# Altium integrated library TI Power Management Battery Management.IntLib: 949 symbols (part 33 of 62)
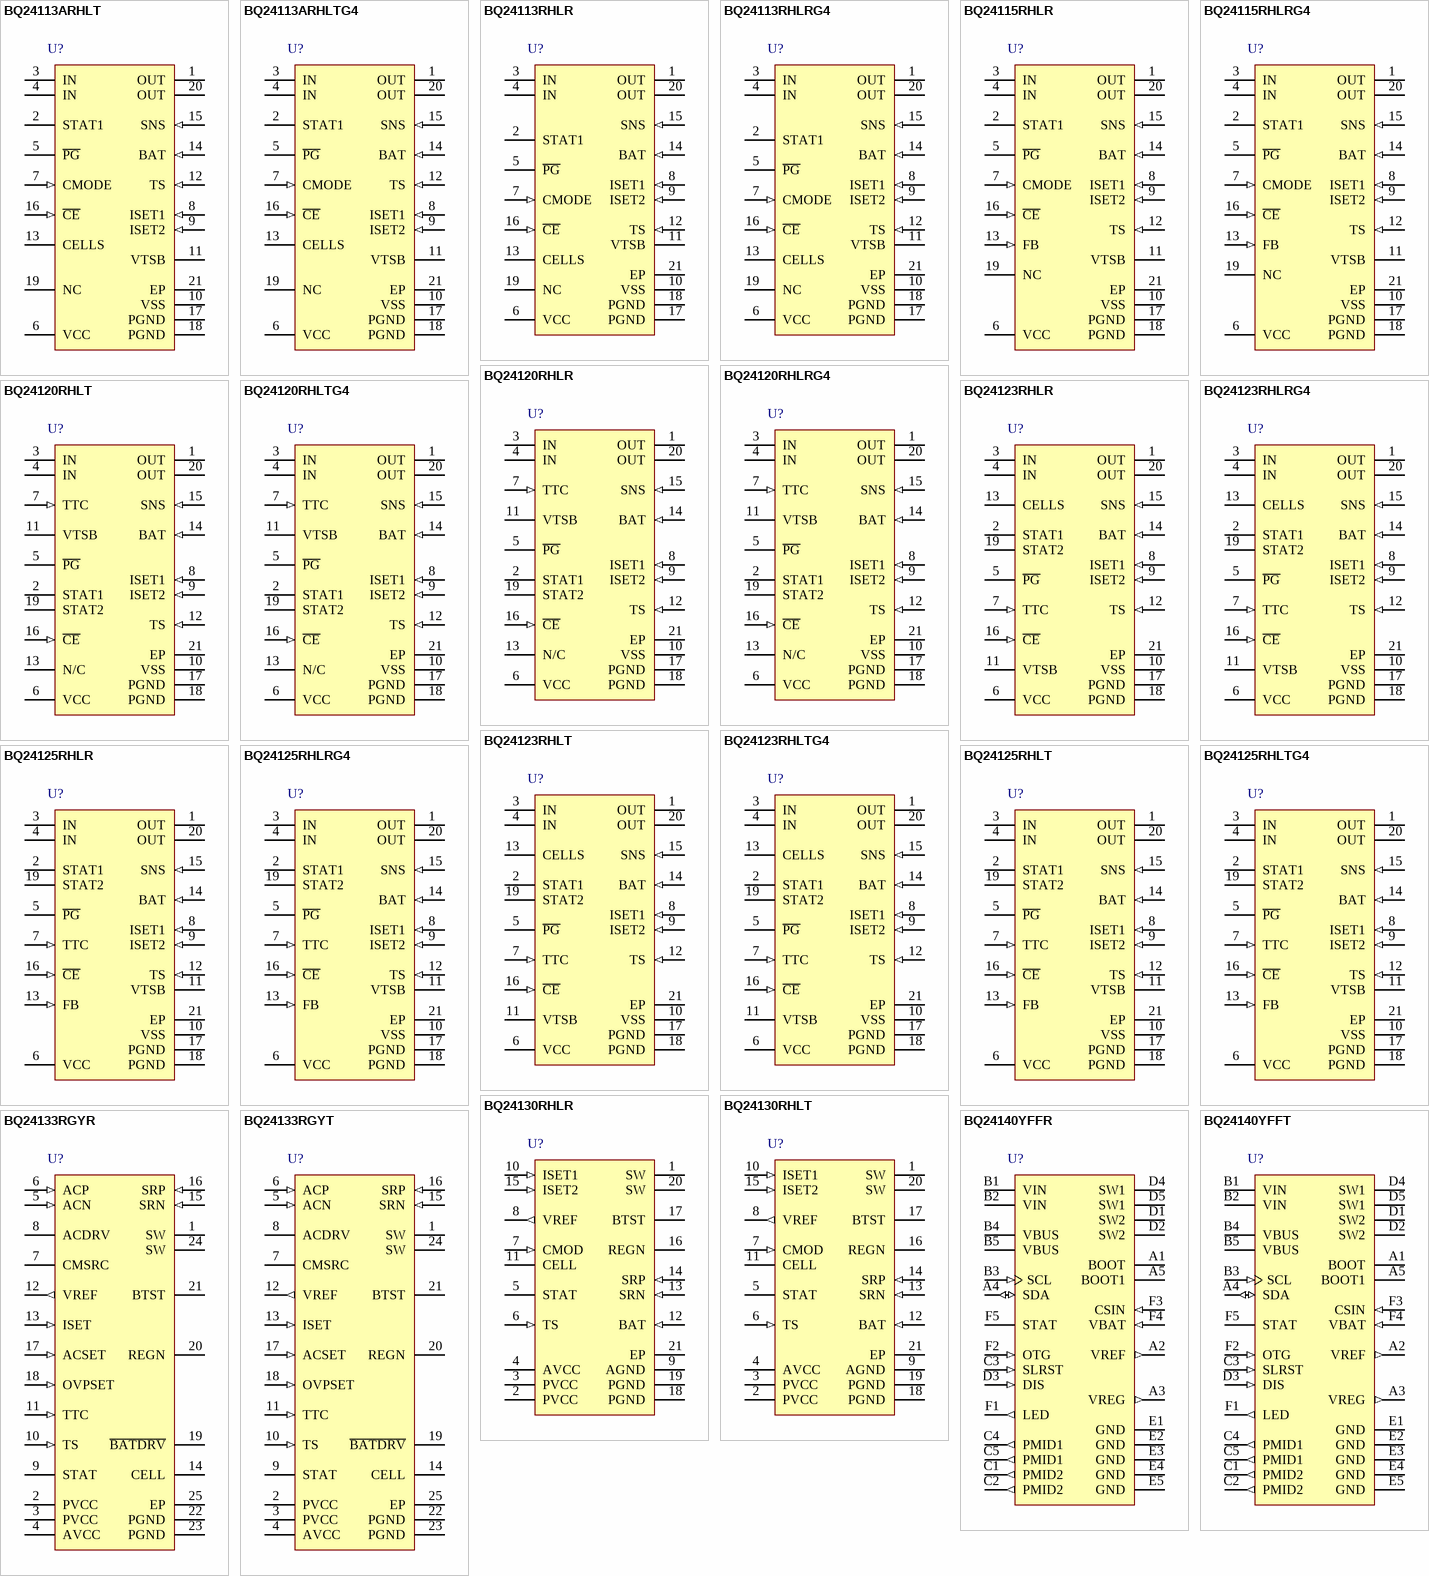
[diagram p66: symbols BQ24113ARHLT to BQ24140YFFT]

## BQ24125RHLRG4
designator U?
Single Chip Switchmode Li-Ion and Li-Polymer Charge Management IC with Enhanced EMI Performance, 4.3 V, -40 to 125 degC, 20-pin QFN (RHL), Green (RoHS & no Sb/Br); PartNumber: BQ24125RHLRG4; Manufacturer: Texas Instruments; Lead Acid: N; Li-Ion: Y; SubFamily: Battery Charge Management; Vin(Min)(V): 4.3; DatasheetVersion: SLUS688G; PackageVersion: revJ, Dec-2011; PackageReference: RHL20-3050X2050TP; PackageDescription: 20-Leads Plastic Quad Flatpack No-Lead, 4.5 x 3.5 x 0.9 mm Body, 0.5 mm Pitch, Exposed Pad; Supplier 1: Digi-Key; Supplier Part Number 1: BQ24125RHLRG4-ND; Supplier 2: Mouser; Supplier Part Number 2: 595-BQ24125RHLRG4; Eco-Plan: Green (RoHS & no Sb/Br); Li-Polymer: Y; NiCd: N; NiMH: N; Over Voltage Protection: N; Mounting Technology: Surface Mount; ComponentLink1Description: Datasheet; ComponentLink1URL: http://www.ti.com/general/docs/lit/getliterature.tsp?genericPartNumber=BQ24125&fileType=pdf
footprint RHL20-3050X2050TP (QFN, 20-Leads, Body 4.5x3.5mm, Pitch 0.5mm, Thermal Pad 3.05x2.05mm, TI Recommended)
pins: 1 OUT (power) "Charge current output inductor connection. Connect a zener TVS diode between OUT pin and PGND to clamp the voltage spike to protect the power MOSFETs during abnormal conditions.", 2 STAT1 (oc) "Charge status 1 (open-drain output). When the transistor turns on indicates charge in process. When it is off and with the condition of STAT2 indicates various charger conditions (See Table 1)", 3 IN (power) "Charger input voltage. Bypass it with a 10uF capacitor from IN to PGND.", 4 IN (power) "Charger input voltage. Bypass it with a 10uF capacitor from IN to PGND.", 5 ~{PG} (oc) "Power-good status output (open drain). The transistor turns on when a valid VCC is detected. It is turned off in the sleep mode. P\G\ can be used to drive a LED or communicate with a host processor.", 6 VCC (power) "Analog device input. A 0.1uF capacitor to VSS is required.", 7 TTC (in) "Timer and termination control. Connect a capacitor from this node to VSS to set the bqSWITCHER timer. When this input is low, the timer and termination detection are disabled.", 8 ISET1 (in) "Charger current set point 1 (fast charge). Use a resistor to ground to set this value.", 9 ISET2 (in) "Charge current set point 2 (precharge and termination), set by a resistor connected to ground.", 10 VSS (power) "Analog ground input", 11 VTSB "TS internal bias regulator voltage. Connect capacitor (with a value between a 0.1uF and 1uF) between this output and VSS.", 12 TS (in) "Temperature sense input. This input monitors its voltage against an internal threshold to determine if charging is allowed. Use an NTC thermistor and a voltage divider powered from VTSB to develop this voltage. (See Figure (See Datasheet)", 13 FB (in) "Output voltage analog feedback adjustment. Connect the output of a resistive voltage divider powered from the battery terminals to this node to adjust the output battery voltage regulation.", 14 BAT (in) "Battery voltage sense input. Bypass it with a capacitor to VSS if there are long inductive leads to battery.", 15 SNS (in) "Charge current-sense input. Battery current is sensed via the voltage drop developed on this pin by an external sense resistor in series with the battery pack. A 0.1uF capacitor to VSS is required.", 16 ~{CE} (in) "Charger enable input. This active low input, if set high, suspends charge and places the device in the low-power sleep mode. Do not pull up this input to VTSB.", 17 PGND (power) "Power ground input", 18 PGND (power) "Power ground input", 19 STAT2 (oc) "Charge status 2 (open-drain output). When the transistor turns on indicates charge is done. When it is off and with the condition of STAT1 indicates various charger conditions (See Table 1)", 20 OUT (power) "Charge current output inductor connection. Connect a zener TVS diode between OUT pin and PGND to clamp the voltage spike to protect the power MOSFETs during abnormal conditions.", 21 EP (power) "There is an internal electrical connection between the exposed thermal pad and VSS. The exposed thermal pad must be connected to the same potential as the VSS pin on the printed circuit board. The power pad can be used as a (See Datasheet)"

## BQ24125RHLT
designator U?
Single Chip Switchmode Li-Ion and Li-Polymer Charge Management IC with Enhanced EMI Performance, 4.3 V, -40 to 125 degC, 20-pin QFN (RHL), Green (RoHS & no Sb/Br); PartNumber: BQ24125RHLT; Manufacturer: Texas Instruments; Lead Acid: N; Li-Ion: Y; SubFamily: Battery Charge Management; Vin(Min)(V): 4.3; DatasheetVersion: SLUS688G; PackageVersion: revJ, Dec-2011; PackageReference: RHL20-3050X2050TP; PackageDescription: 20-Leads Plastic Quad Flatpack No-Lead, 4.5 x 3.5 x 0.9 mm Body, 0.5 mm Pitch, Exposed Pad; Supplier 1: Digi-Key; Supplier Part Number 1: BQ24125RHLT-ND; Supplier 2: Farnell; Supplier Part Number 2: 1536712; Supplier 3: Mouser; Supplier Part Number 3: 595-BQ24125RHLT; Eco-Plan: Green (RoHS & no Sb/Br); Li-Polymer: Y; NiCd: N; NiMH: N; Over Voltage Protection: N; Mounting Technology: Surface Mount; ComponentLink1Description: Datasheet; ComponentLink1URL: http://www.ti.com/general/docs/lit/getliterature.tsp?genericPartNumber=BQ24125&fileType=pdf
footprint RHL20-3050X2050TP (QFN, 20-Leads, Body 4.5x3.5mm, Pitch 0.5mm, Thermal Pad 3.05x2.05mm, TI Recommended)
pins: 1 OUT (power) "Charge current output inductor connection. Connect a zener TVS diode between OUT pin and PGND to clamp the voltage spike to protect the power MOSFETs during abnormal conditions.", 2 STAT1 (oc) "Charge status 1 (open-drain output). When the transistor turns on indicates charge in process. When it is off and with the condition of STAT2 indicates various charger conditions (See Table 1)", 3 IN (power) "Charger input voltage. Bypass it with a 10uF capacitor from IN to PGND.", 4 IN (power) "Charger input voltage. Bypass it with a 10uF capacitor from IN to PGND.", 5 ~{PG} (oc) "Power-good status output (open drain). The transistor turns on when a valid VCC is detected. It is turned off in the sleep mode. P\G\ can be used to drive a LED or communicate with a host processor.", 6 VCC (power) "Analog device input. A 0.1uF capacitor to VSS is required.", 7 TTC (in) "Timer and termination control. Connect a capacitor from this node to VSS to set the bqSWITCHER timer. When this input is low, the timer and termination detection are disabled.", 8 ISET1 (in) "Charger current set point 1 (fast charge). Use a resistor to ground to set this value.", 9 ISET2 (in) "Charge current set point 2 (precharge and termination), set by a resistor connected to ground.", 10 VSS (power) "Analog ground input", 11 VTSB "TS internal bias regulator voltage. Connect capacitor (with a value between a 0.1uF and 1uF) between this output and VSS.", 12 TS (in) "Temperature sense input. This input monitors its voltage against an internal threshold to determine if charging is allowed. Use an NTC thermistor and a voltage divider powered from VTSB to develop this voltage. (See Figure (See Datasheet)", 13 FB (in) "Output voltage analog feedback adjustment. Connect the output of a resistive voltage divider powered from the battery terminals to this node to adjust the output battery voltage regulation.", 14 BAT (in) "Battery voltage sense input. Bypass it with a capacitor to VSS if there are long inductive leads to battery.", 15 SNS (in) "Charge current-sense input. Battery current is sensed via the voltage drop developed on this pin by an external sense resistor in series with the battery pack. A 0.1uF capacitor to VSS is required.", 16 ~{CE} (in) "Charger enable input. This active low input, if set high, suspends charge and places the device in the low-power sleep mode. Do not pull up this input to VTSB.", 17 PGND (power) "Power ground input", 18 PGND (power) "Power ground input", 19 STAT2 (oc) "Charge status 2 (open-drain output). When the transistor turns on indicates charge is done. When it is off and with the condition of STAT1 indicates various charger conditions (See Table 1)", 20 OUT (power) "Charge current output inductor connection. Connect a zener TVS diode between OUT pin and PGND to clamp the voltage spike to protect the power MOSFETs during abnormal conditions.", 21 EP (power) "There is an internal electrical connection between the exposed thermal pad and VSS. The exposed thermal pad must be connected to the same potential as the VSS pin on the printed circuit board. The power pad can be used as a (See Datasheet)"

## BQ24125RHLTG4
designator U?
Single Chip Switchmode Li-Ion and Li-Polymer Charge Management IC with Enhanced EMI Performance, 4.3 V, -40 to 125 degC, 20-pin QFN (RHL), Green (RoHS & no Sb/Br); PartNumber: BQ24125RHLTG4; Manufacturer: Texas Instruments; Lead Acid: N; Li-Ion: Y; SubFamily: Battery Charge Management; Vin(Min)(V): 4.3; DatasheetVersion: SLUS688G; PackageVersion: revJ, Dec-2011; PackageReference: RHL20-3050X2050TP; PackageDescription: 20-Leads Plastic Quad Flatpack No-Lead, 4.5 x 3.5 x 0.9 mm Body, 0.5 mm Pitch, Exposed Pad; Supplier 1: Digi-Key; Supplier Part Number 1: BQ24125RHLTG4-ND; Supplier 2: Mouser; Supplier Part Number 2: 595-BQ24125RHLTG4; Eco-Plan: Green (RoHS & no Sb/Br); Li-Polymer: Y; NiCd: N; NiMH: N; Over Voltage Protection: N; Mounting Technology: Surface Mount; ComponentLink1Description: Datasheet; ComponentLink1URL: http://www.ti.com/general/docs/lit/getliterature.tsp?genericPartNumber=BQ24125&fileType=pdf
footprint RHL20-3050X2050TP (QFN, 20-Leads, Body 4.5x3.5mm, Pitch 0.5mm, Thermal Pad 3.05x2.05mm, TI Recommended)
pins: 1 OUT (power) "Charge current output inductor connection. Connect a zener TVS diode between OUT pin and PGND to clamp the voltage spike to protect the power MOSFETs during abnormal conditions.", 2 STAT1 (oc) "Charge status 1 (open-drain output). When the transistor turns on indicates charge in process. When it is off and with the condition of STAT2 indicates various charger conditions (See Table 1)", 3 IN (power) "Charger input voltage. Bypass it with a 10uF capacitor from IN to PGND.", 4 IN (power) "Charger input voltage. Bypass it with a 10uF capacitor from IN to PGND.", 5 ~{PG} (oc) "Power-good status output (open drain). The transistor turns on when a valid VCC is detected. It is turned off in the sleep mode. P\G\ can be used to drive a LED or communicate with a host processor.", 6 VCC (power) "Analog device input. A 0.1uF capacitor to VSS is required.", 7 TTC (in) "Timer and termination control. Connect a capacitor from this node to VSS to set the bqSWITCHER timer. When this input is low, the timer and termination detection are disabled.", 8 ISET1 (in) "Charger current set point 1 (fast charge). Use a resistor to ground to set this value.", 9 ISET2 (in) "Charge current set point 2 (precharge and termination), set by a resistor connected to ground.", 10 VSS (power) "Analog ground input", 11 VTSB "TS internal bias regulator voltage. Connect capacitor (with a value between a 0.1uF and 1uF) between this output and VSS.", 12 TS (in) "Temperature sense input. This input monitors its voltage against an internal threshold to determine if charging is allowed. Use an NTC thermistor and a voltage divider powered from VTSB to develop this voltage. (See Figure (See Datasheet)", 13 FB (in) "Output voltage analog feedback adjustment. Connect the output of a resistive voltage divider powered from the battery terminals to this node to adjust the output battery voltage regulation.", 14 BAT (in) "Battery voltage sense input. Bypass it with a capacitor to VSS if there are long inductive leads to battery.", 15 SNS (in) "Charge current-sense input. Battery current is sensed via the voltage drop developed on this pin by an external sense resistor in series with the battery pack. A 0.1uF capacitor to VSS is required.", 16 ~{CE} (in) "Charger enable input. This active low input, if set high, suspends charge and places the device in the low-power sleep mode. Do not pull up this input to VTSB.", 17 PGND (power) "Power ground input", 18 PGND (power) "Power ground input", 19 STAT2 (oc) "Charge status 2 (open-drain output). When the transistor turns on indicates charge is done. When it is off and with the condition of STAT1 indicates various charger conditions (See Table 1)", 20 OUT (power) "Charge current output inductor connection. Connect a zener TVS diode between OUT pin and PGND to clamp the voltage spike to protect the power MOSFETs during abnormal conditions.", 21 EP (power) "There is an internal electrical connection between the exposed thermal pad and VSS. The exposed thermal pad must be connected to the same potential as the VSS pin on the printed circuit board. The power pad can be used as a (See Datasheet)"

## BQ24130RHLR
designator U?
600 kHz Synchronous Switch-Mode Li-Ion and Li-Polymer Host-Controlled Battery Charger, -40 to 85 degC, 20-pin QFN (RHL), Green (RoHS & no Sb/Br); PartNumber: BQ24130RHLR; Manufacturer: Texas Instruments; Lead Acid: N; SubFamily: Battery Charge Management; DatasheetVersion: SLUSAN2C; PackageVersion: revJ, Dec-2011; PackageReference: RHL20-3050X2050TP; PackageDescription: 20-Leads Plastic Quad Flatpack No-Lead, 4.5 x 3.5 x 0.9 mm Body, 0.5 mm Pitch, Exposed Pad; Supplier 1: Digi-Key; Supplier Part Number 1: BQ24130RHLR-ND; Supplier 2: Newark; Supplier Part Number 2: 64T2880; Supplier 3: Mouser; Supplier Part Number 3: 595-BQ24130RHLR; Eco-Plan: Green (RoHS & no Sb/Br); Li-Ion: N; Li-Polymer: N; NiCd: N; NiMH: N; Over Voltage Protection: N; Mounting Technology: Surface Mount; ComponentLink1Description: Datasheet; ComponentLink1URL: http://www.ti.com/general/docs/lit/getliterature.tsp?genericPartNumber=BQ24130&fileType=pdf
footprint RHL20-3050X2050TP (QFN, 20-Leads, Body 4.5x3.5mm, Pitch 0.5mm, Thermal Pad 3.05x2.05mm, TI Recommended)
pins: 1 SW (power) "Swiching node, charge current output inductor connection. Connect the 0.47-uF bootstrap capacitor from SW to BTST.", 2 PVCC (power) "Charger input voltage. Connect at least 10-uF ceramic capacitor from PVCC to PGND and place it as close as possible to IC.", 3 PVCC (power) "Charger input voltage. Connect at least 10-µF ceramic capacitor from PVCC to PGND and place it as close as possible to IC.", 4 AVCC (power) "IC power positive supply. Place a 1-uF ceramic capacitor from AVCC to AGND and place it as close as possible to IC. Place a 10 ohm resistor from input side to AVCC pin to filter the noise. For 5 V input, a 5-ohm resistor is (See Datasheet)", 5 STAT (hiz) "Open-drain charge status pin with 10-kohm pull up to power rail. The STAT pin can be used to drive LED or communicate with the host processor. It indicates vaious charger operations: LOW when charge in process, HIGH when (See Datasheet)", 6 TS (in) "Temperature qualification voltage input. Connect a negative temperature coefficient thermistor. Program the hot and cold temperature window with a resistor divider from VREF to TS to AGND. The temperature qualification (See Datasheet)", 7 CMOD (in) "Charge mode selection: low (pull down to AGND) for pre-charge current as set by ISET2 pin and high (pull up to VREF) for fast charge current as set by ISET1 pin. If the battery voltage reaches the voltage regulation set (See Datasheet)", 8 VREF (out) "3.3 V reference voltage output. Place a 1-uF ceramic capacitor from VREF to AGND pin close to the IC. This voltage could be used for programming charge current regulation on ISET1 and ISET2 pins, programming the threshold of (See Datasheet)", 9 AGND (power) "Analog ground. Ground connection for low-current sensitive analog and digital signals. On PCB layout, connect to the analog ground plane, and only connect to PGND through the PowerPad underneath the IC.", 10 ISET1 (in) "Fast charge current set point. Use a voltage divider from VREF to AGND to set this value.The charger is disabled when ISET1 pin voltage is below 50mV and is enabled when ISET1 pin voltage is above 100mV.", 11 CELL "Cell selection pin. Set CELL pin LO for 1-cell, Float for 2-cell, and HI for 3-cell with a fixed 4.2 V per cell.", 12 BAT (in) "Battery voltage remote sense. Directly connect a kelvin sense trace from the battery pack positive terminal to the BAT pin to accurately sense the battery pack voltage. Place a 0.1-uF capacitor from BAT to AGND close to the (See Datasheet)", 13 SRN (in) "Charge current sense resistor, negative input. A 0.1-uF ceramic capacitor is placed from SRN to SRP to provide differential-mode filtering. A 0.1-uF ceramic capacitor is placed from SRN pin to AGND for common-mode filtering.", 14 SRP (in) "Charge current sense resistor, positive input. A 0.1-uF ceramic capacitor is placed from SRN to SRP to provide differential-mode filtering. A 0.1-uF ceramic capacitor is placed from SRN pin to AGND for common-mode filtering.", 15 ISET2 (in) "Pre-charge current set point. Use a voltage divider from VREF to AGND to set this value.", 16 REGN (power) "PWM low side driver positive 6V supply output. Connect a 1-uF ceramic capacitor from REGN to PGND pin, close to the IC. Use for low side driver and high-side driver bootstrap voltage by integrated diode from REGN to BTST.", 17 BTST (power) "PWM high side driver positive supply. Connect the 47 nF bootstrap capacitor from SW to BTST.", 18 PGND (power) "Power ground. Ground connection for high-current power converter node. On PCB layout, connect directly to source of low-side power MOSFET, to ground connection of in put and output capacitors of the charger. Only connect to (See Datasheet)", 19 PGND (power) "Power ground. Ground connection for high-current power converter node. On PCB layout, connect directly to source of low-side power MOSFET, to ground connection of in put and output capacitors of the charger. Only connect to (See Datasheet)", 20 SW (power) "Swiching node, charge current output inductor connection. Connect the 0.47-uF bootstrap capacitor from SW to BTST.", 21 EP (power) "Exposed pad beneath the IC. Always solder PowerPAD to the board, and have vias on the PowerPAD plane star-connecting to AGND and ground plane for high-current power converter. It also serves as a thermal pad to dissipate the (See Datasheet)"

## BQ24130RHLT
designator U?
600 kHz Synchronous Switch-Mode Li-Ion and Li-Polymer Host-Controlled Battery Charger, -40 to 85 degC, 20-pin QFN (RHL), Green (RoHS & no Sb/Br); PartNumber: BQ24130RHLT; Manufacturer: Texas Instruments; Lead Acid: N; SubFamily: Battery Charge Management; DatasheetVersion: SLUSAN2C; PackageVersion: revJ, Dec-2011; PackageReference: RHL20-3050X2050TP; PackageDescription: 20-Leads Plastic Quad Flatpack No-Lead, 4.5 x 3.5 x 0.9 mm Body, 0.5 mm Pitch, Exposed Pad; Supplier 1: Digi-Key; Supplier Part Number 1: 296-29534-2-ND; Supplier 2: Digi-Key; Supplier Part Number 2: 296-29534-1-ND; Supplier 3: Digi-Key; Supplier Part Number 3: 296-29534-6-ND; Supplier 4: Newark; Supplier Part Number 4: 64T2881; Supplier 5: Mouser; Supplier Part Number 5: 595-BQ24130RHLT; Eco-Plan: Green (RoHS & no Sb/Br); Li-Ion: N; Li-Polymer: N; NiCd: N; NiMH: N; Over Voltage Protection: N; Mounting Technology: Surface Mount; ComponentLink1Description: Datasheet; ComponentLink1URL: http://www.ti.com/general/docs/lit/getliterature.tsp?genericPartNumber=BQ24130&fileType=pdf
footprint RHL20-3050X2050TP (QFN, 20-Leads, Body 4.5x3.5mm, Pitch 0.5mm, Thermal Pad 3.05x2.05mm, TI Recommended)
pins: 1 SW (power) "Swiching node, charge current output inductor connection. Connect the 0.47-uF bootstrap capacitor from SW to BTST.", 2 PVCC (power) "Charger input voltage. Connect at least 10-uF ceramic capacitor from PVCC to PGND and place it as close as possible to IC.", 3 PVCC (power) "Charger input voltage. Connect at least 10-µF ceramic capacitor from PVCC to PGND and place it as close as possible to IC.", 4 AVCC (power) "IC power positive supply. Place a 1-uF ceramic capacitor from AVCC to AGND and place it as close as possible to IC. Place a 10 ohm resistor from input side to AVCC pin to filter the noise. For 5 V input, a 5-ohm resistor is (See Datasheet)", 5 STAT (hiz) "Open-drain charge status pin with 10-kohm pull up to power rail. The STAT pin can be used to drive LED or communicate with the host processor. It indicates vaious charger operations: LOW when charge in process, HIGH when (See Datasheet)", 6 TS (in) "Temperature qualification voltage input. Connect a negative temperature coefficient thermistor. Program the hot and cold temperature window with a resistor divider from VREF to TS to AGND. The temperature qualification (See Datasheet)", 7 CMOD (in) "Charge mode selection: low (pull down to AGND) for pre-charge current as set by ISET2 pin and high (pull up to VREF) for fast charge current as set by ISET1 pin. If the battery voltage reaches the voltage regulation set (See Datasheet)", 8 VREF (out) "3.3 V reference voltage output. Place a 1-uF ceramic capacitor from VREF to AGND pin close to the IC. This voltage could be used for programming charge current regulation on ISET1 and ISET2 pins, programming the threshold of (See Datasheet)", 9 AGND (power) "Analog ground. Ground connection for low-current sensitive analog and digital signals. On PCB layout, connect to the analog ground plane, and only connect to PGND through the PowerPad underneath the IC.", 10 ISET1 (in) "Fast charge current set point. Use a voltage divider from VREF to AGND to set this value.The charger is disabled when ISET1 pin voltage is below 50mV and is enabled when ISET1 pin voltage is above 100mV.", 11 CELL "Cell selection pin. Set CELL pin LO for 1-cell, Float for 2-cell, and HI for 3-cell with a fixed 4.2 V per cell.", 12 BAT (in) "Battery voltage remote sense. Directly connect a kelvin sense trace from the battery pack positive terminal to the BAT pin to accurately sense the battery pack voltage. Place a 0.1-uF capacitor from BAT to AGND close to the (See Datasheet)", 13 SRN (in) "Charge current sense resistor, negative input. A 0.1-uF ceramic capacitor is placed from SRN to SRP to provide differential-mode filtering. A 0.1-uF ceramic capacitor is placed from SRN pin to AGND for common-mode filtering.", 14 SRP (in) "Charge current sense resistor, positive input. A 0.1-uF ceramic capacitor is placed from SRN to SRP to provide differential-mode filtering. A 0.1-uF ceramic capacitor is placed from SRN pin to AGND for common-mode filtering.", 15 ISET2 (in) "Pre-charge current set point. Use a voltage divider from VREF to AGND to set this value.", 16 REGN (power) "PWM low side driver positive 6V supply output. Connect a 1-uF ceramic capacitor from REGN to PGND pin, close to the IC. Use for low side driver and high-side driver bootstrap voltage by integrated diode from REGN to BTST.", 17 BTST (power) "PWM high side driver positive supply. Connect the 47 nF bootstrap capacitor from SW to BTST.", 18 PGND (power) "Power ground. Ground connection for high-current power converter node. On PCB layout, connect directly to source of low-side power MOSFET, to ground connection of in put and output capacitors of the charger. Only connect to (See Datasheet)", 19 PGND (power) "Power ground. Ground connection for high-current power converter node. On PCB layout, connect directly to source of low-side power MOSFET, to ground connection of in put and output capacitors of the charger. Only connect to (See Datasheet)", 20 SW (power) "Swiching node, charge current output inductor connection. Connect the 0.47-uF bootstrap capacitor from SW to BTST.", 21 EP (power) "Exposed pad beneath the IC. Always solder PowerPAD to the board, and have vias on the PowerPAD plane star-connecting to AGND and ground plane for high-current power converter. It also serves as a thermal pad to dissipate the (See Datasheet)"

## BQ24133RGYR
designator U?
Synchronous Switch-Mode Li-Ion and Li-Polymer Stand-Alone Battery Charger, -40 to 85 degC, 24-pin VQFN (RGY), Green (RoHS & no Sb/Br); PartNumber: BQ24133RGYR; Manufacturer: Texas Instruments; Lead Acid: N; SubFamily: Battery Charge Management; DatasheetVersion: SLUSAF7B; PackageVersion: revI, Jun-2011; PackageReference: RGY24-3100X2050TP; PackageDescription: 24-Leads Plastic Quad Flatpack No-Lead, 5.5 x 3.5 x 0.9 mm Body, 0.5 mm Pitch, Exposed Pad; Supplier 1: Digi-Key; Supplier Part Number 1: BQ24133RGYR-ND; Supplier 2: Newark; Supplier Part Number 2: 40T4613; Supplier 3: Mouser; Supplier Part Number 3: 595-BQ24133RGYR; Eco-Plan: Green (RoHS & no Sb/Br); Li-Ion: N; Li-Polymer: N; NiCd: N; NiMH: N; Over Voltage Protection: N; Mounting Technology: Surface Mount; Code_JEDEC: MO-241-BA; ComponentLink1Description: Datasheet; ComponentLink1URL: http://www.ti.com/general/docs/lit/getliterature.tsp?genericPartNumber=BQ24133&fileType=pdf
footprint RGY24-3100X2050TP (QFN, 24-Leads, Body 5.5x3.5mm, Pitch 0.5mm, Thermal Pad 3.1x2.05mm, TI Recommended)
pins: 1 SW (power) "Switching node, charge current output inductor connection. Connect the 0.047-uF bootstrap capacitor from SW to BTST.", 2 PVCC (power) "Charger input voltage. Connect at least 10-uF ceramic capacitor from PVCC to PGND and place it as close as possible to IC", 3 PVCC (power) "Charger input voltage. Connect at least 10-uF ceramic capacitor from PVCC to PGND and place it as close as possible to IC", 4 AVCC (power) "IC power positive supply. Place a 1-uF ceramic capacitor from AVCC to AGND and place it as close as possible to IC. Place a 10-ohm resistor from input side to AVCC pin to filter the noise. For 5V input, a 5-ohm resistor is (See Datasheet)", 5 ACN (in) "Adapter current sense resistor negative input. A 0.1-uF ceramic capacitor is placed from ACN to ACP to provide differential-mode filtering. An optional 0.1-uF ceramic capacitor is placed from ACN pin to AGND for common-mode (See Datasheet)", 6 ACP (in) "Adapter current sense resistor positive input. A 0.1-uF ceramic capacitor is placed from ACN to ACP to provide differential-mode filtering. A 0.1-uF ceramic capacitor is placed from ACP pin to AGND for common-mode filtering.", 7 CMSRC "Connect to common source of N-channel ACFET and reverse blocking MOSFET (RBFET). Place 4-kohm resistor from CMSRC pin to the common source of ACFET and RBFET to control the turn-on speed. The resistance between ACDRV and (See Datasheet)", 8 ACDRV "AC adapter to system switch driver output. Connect to 4-kohm resistor then to the gate of the ACFET N-channel power MOSFET and the reverse conduction blocking N-channel power MOSFET. Connect both FETs as common-source. The (See Datasheet)", 9 STAT (hiz) "Open-drain charge status pin with 10-k ohm pull up to power rail. The STAT pin can be used to drive LED or communicate with the host processor. It indicates various charger operations: LOW when charge in progress. HIGH when (See Datasheet)", 10 TS (in) "Temperature qualification voltage input. Connect a negative temperature coefficient thermistor. Program the hot and cold temperature window with a resistor divider from VREF to TS to AGND. The temperature qualification (See Datasheet)", 11 TTC (in) "Safety Timer and termination control. Connect a capacitor from this node to AGND to set the fast charge safety timer(5.6min/nF). Pre-charge timer is internally fixed to 30 minutes. Pull the TTC to LOW to disable the charge (See Datasheet)", 12 VREF (out) "3.3V reference voltage output. Place a 1-uF ceramic capacitor from VREF to AGND pin close to the IC. This voltage could be used for programming ISET and ACSET and TS pins. It may also serve as the pull-up rail of STAT pin (See Datasheet)", 13 ISET (in) "Fast charge current set point. Use a voltage divider from VREF to ISET to AGND to set the fast charge current: ICHG=VISET/(20*RSR) The pre-charge and termination current is internally as one tenth of the charge current. The (See Datasheet)", 14 CELL "Cell selection pin. Set CELL pin LOW for 1-cell, Float for 2-cell (0.8V-1.8V), and HIGH for 3-cell with a fixed 4.2V per cell.", 15 SRN (in) "Charge current sense resistor negative input. A 0.1-uF ceramic capacitor is placed from SRN to SRP to provide differential-mode filtering. A 0.1-uF ceramic capacitor is placed from SRN pin to AGND for common-mode filtering.", 16 SRP (in) "Charge current sense resistor, positive input. A 0.1-uF ceramic capacitor is placed from SRN to SRP to provide differential-mode filtering. A 0.1-uF ceramic capacitor is placed from SRP pin to AGND for common-mode filtering.", 17 ACSET (in) "Input current set point. Use a voltage divider from VREF to ACSET to AGND to set this value:IDPM=VACSET/(20*RAC)", 18 OVPSET (in) "Valid input voltage set point. Use a voltage divider from input to OVPSET to AGND to set this voltage. The voltage above internal 1.6V reference indicates input over-voltage, and the voltage below internal 0.5V reference (See Datasheet)", 19 ~{BATDRV} "Battery discharge MOSFET gate driver output. Connect to 1kohm resistor to the gate of the BATFET P-channel power MOSFET. Connect the source of the BATFET to the system load voltage node. Connect the drain of the BATFET to (See Datasheet)", 20 REGN (power) "PWM low side driver positive 6V supply output. Connect a 1-uF ceramic capacitor from REGN to PGND pin, close to the IC. Generate high-side driver bootstrap voltage by integrated diode from REGN to BTST", 21 BTST (power) "PWM high side driver positive supply. Connect the 0.047-uF bootstrap capacitor from SW to BTST.", 22 PGND (power) "Power ground. Ground connection for high-current power converter node. On PCB layout, connect directly to ground connection of input and output capacitors of the charger. Only connect to AGND through the Thermal Pad (See Datasheet)", 23 PGND (power) "Power ground. Ground connection for high-current power converter node. On PCB layout, connect directly to ground connection of input and output capacitors of the charger. Only connect to AGND through the Thermal Pad (See Datasheet)", 24 SW (power) "Switching node, charge current output inductor connection. Connect the 0.047-uF bootstrap capacitor from SW to BTST.", 25 EP (power) "Exposed pad beneath the IC. Always solder Thermal Pad to the board, and have vias on the Thermal  Pad plane star-connecting to AGND and ground plane for high-current power converter. It dissipates the heat from the IC."

## BQ24133RGYT
designator U?
Synchronous Switch-Mode Li-Ion and Li-Polymer Stand-Alone Battery Charger, -40 to 85 degC, 24-pin VQFN (RGY), Green (RoHS & no Sb/Br); PartNumber: BQ24133RGYT; Manufacturer: Texas Instruments; Lead Acid: N; SubFamily: Battery Charge Management; DatasheetVersion: SLUSAF7B; PackageVersion: revI, Jun-2011; PackageReference: RGY24-3100X2050TP; PackageDescription: 24-Leads Plastic Quad Flatpack No-Lead, 5.5 x 3.5 x 0.9 mm Body, 0.5 mm Pitch, Exposed Pad; Supplier 1: Digi-Key; Supplier Part Number 1: 296-28314-2-ND; Supplier 2: Digi-Key; Supplier Part Number 2: 296-28314-1-ND; Supplier 3: Digi-Key; Supplier Part Number 3: 296-28314-6-ND; Supplier 4: Newark; Supplier Part Number 4: 40T4614; Supplier 5: Mouser; Supplier Part Number 5: 595-BQ24133RGYT; Eco-Plan: Green (RoHS & no Sb/Br); Li-Ion: N; Li-Polymer: N; NiCd: N; NiMH: N; Over Voltage Protection: N; Mounting Technology: Surface Mount; Code_JEDEC: MO-241-BA; ComponentLink1Description: Datasheet; ComponentLink1URL: http://www.ti.com/general/docs/lit/getliterature.tsp?genericPartNumber=BQ24133&fileType=pdf
footprint RGY24-3100X2050TP (QFN, 24-Leads, Body 5.5x3.5mm, Pitch 0.5mm, Thermal Pad 3.1x2.05mm, TI Recommended)
pins: 1 SW (power) "Switching node, charge current output inductor connection. Connect the 0.047-uF bootstrap capacitor from SW to BTST.", 2 PVCC (power) "Charger input voltage. Connect at least 10-uF ceramic capacitor from PVCC to PGND and place it as close as possible to IC", 3 PVCC (power) "Charger input voltage. Connect at least 10-uF ceramic capacitor from PVCC to PGND and place it as close as possible to IC", 4 AVCC (power) "IC power positive supply. Place a 1-uF ceramic capacitor from AVCC to AGND and place it as close as possible to IC. Place a 10-ohm resistor from input side to AVCC pin to filter the noise. For 5V input, a 5-ohm resistor is (See Datasheet)", 5 ACN (in) "Adapter current sense resistor negative input. A 0.1-uF ceramic capacitor is placed from ACN to ACP to provide differential-mode filtering. An optional 0.1-uF ceramic capacitor is placed from ACN pin to AGND for common-mode (See Datasheet)", 6 ACP (in) "Adapter current sense resistor positive input. A 0.1-uF ceramic capacitor is placed from ACN to ACP to provide differential-mode filtering. A 0.1-uF ceramic capacitor is placed from ACP pin to AGND for common-mode filtering.", 7 CMSRC "Connect to common source of N-channel ACFET and reverse blocking MOSFET (RBFET). Place 4-kohm resistor from CMSRC pin to the common source of ACFET and RBFET to control the turn-on speed. The resistance between ACDRV and (See Datasheet)", 8 ACDRV "AC adapter to system switch driver output. Connect to 4-kohm resistor then to the gate of the ACFET N-channel power MOSFET and the reverse conduction blocking N-channel power MOSFET. Connect both FETs as common-source. The (See Datasheet)", 9 STAT (hiz) "Open-drain charge status pin with 10-k ohm pull up to power rail. The STAT pin can be used to drive LED or communicate with the host processor. It indicates various charger operations: LOW when charge in progress. HIGH when (See Datasheet)", 10 TS (in) "Temperature qualification voltage input. Connect a negative temperature coefficient thermistor. Program the hot and cold temperature window with a resistor divider from VREF to TS to AGND. The temperature qualification (See Datasheet)", 11 TTC (in) "Safety Timer and termination control. Connect a capacitor from this node to AGND to set the fast charge safety timer(5.6min/nF). Pre-charge timer is internally fixed to 30 minutes. Pull the TTC to LOW to disable the charge (See Datasheet)", 12 VREF (out) "3.3V reference voltage output. Place a 1-uF ceramic capacitor from VREF to AGND pin close to the IC. This voltage could be used for programming ISET and ACSET and TS pins. It may also serve as the pull-up rail of STAT pin (See Datasheet)", 13 ISET (in) "Fast charge current set point. Use a voltage divider from VREF to ISET to AGND to set the fast charge current: ICHG=VISET/(20*RSR) The pre-charge and termination current is internally as one tenth of the charge current. The (See Datasheet)", 14 CELL "Cell selection pin. Set CELL pin LOW for 1-cell, Float for 2-cell (0.8V-1.8V), and HIGH for 3-cell with a fixed 4.2V per cell.", 15 SRN (in) "Charge current sense resistor negative input. A 0.1-uF ceramic capacitor is placed from SRN to SRP to provide differential-mode filtering. A 0.1-uF ceramic capacitor is placed from SRN pin to AGND for common-mode filtering.", 16 SRP (in) "Charge current sense resistor, positive input. A 0.1-uF ceramic capacitor is placed from SRN to SRP to provide differential-mode filtering. A 0.1-uF ceramic capacitor is placed from SRP pin to AGND for common-mode filtering.", 17 ACSET (in) "Input current set point. Use a voltage divider from VREF to ACSET to AGND to set this value:IDPM=VACSET/(20*RAC)", 18 OVPSET (in) "Valid input voltage set point. Use a voltage divider from input to OVPSET to AGND to set this voltage. The voltage above internal 1.6V reference indicates input over-voltage, and the voltage below internal 0.5V reference (See Datasheet)", 19 ~{BATDRV} "Battery discharge MOSFET gate driver output. Connect to 1kohm resistor to the gate of the BATFET P-channel power MOSFET. Connect the source of the BATFET to the system load voltage node. Connect the drain of the BATFET to (See Datasheet)", 20 REGN (power) "PWM low side driver positive 6V supply output. Connect a 1-uF ceramic capacitor from REGN to PGND pin, close to the IC. Generate high-side driver bootstrap voltage by integrated diode from REGN to BTST", 21 BTST (power) "PWM high side driver positive supply. Connect the 0.047-uF bootstrap capacitor from SW to BTST.", 22 PGND (power) "Power ground. Ground connection for high-current power converter node. On PCB layout, connect directly to ground connection of input and output capacitors of the charger. Only connect to AGND through the Thermal Pad (See Datasheet)", 23 PGND (power) "Power ground. Ground connection for high-current power converter node. On PCB layout, connect directly to ground connection of input and output capacitors of the charger. Only connect to AGND through the Thermal Pad (See Datasheet)", 24 SW (power) "Switching node, charge current output inductor connection. Connect the 0.047-uF bootstrap capacitor from SW to BTST.", 25 EP (power) "Exposed pad beneath the IC. Always solder Thermal Pad to the board, and have vias on the Thermal  Pad plane star-connecting to AGND and ground plane for high-current power converter. It dissipates the heat from the IC."

## BQ24140YFFR
designator U?
1.5 A Dual Input Switchmode Charger with USB-OTG Suppor, 4 V, -40 to 85 degC, 30-pin DSBGA (YFF), Green (RoHS & no Sb/Br); PartNumber: BQ24140YFFR; Manufacturer: Texas Instruments; Lead Acid: N; Li-Ion: Y; SubFamily: Battery Charge Management; Vin(Min)(V): 4; DatasheetVersion: SLUSAO5; PackageVersion: revAE, Nov-2011; PackageReference: YFF30; PackageDescription: 30-Ball Die-Size Ball Grid Array, 2.6 x 2.3 mm Body, 0.4 mm Pitch, Pb-Free; Supplier 1: Digi-Key; Supplier Part Number 1: 296-29787-2-ND; Supplier 2: Digi-Key; Supplier Part Number 2: 296-29787-1-ND; Supplier 3: Digi-Key; Supplier Part Number 3: 296-29787-6-ND; Supplier 4: Newark; Supplier Part Number 4: 68T8953; Supplier 5: Mouser; Supplier Part Number 5: 595-BQ24140YFFR; Eco-Plan: Green (RoHS & no Sb/Br); Li-Polymer: Y; NiCd: N; NiMH: N; Over Voltage Protection: N; Mounting Technology: Surface Mount; ComponentLink1Description: Datasheet; ComponentLink1URL: http://www.ti.com/general/docs/lit/getliterature.tsp?genericPartNumber=BQ24140&fileType=pdf
footprint YFF30 (BGA, 30-Leads, Body 2.6x2.3mm, Pitch 0.4mm, Solder Mask Defined Pads)
pins: A1 BOOT (power) "Boot-strapped capacitor for the high-side MOSFET gate driver. Connect a 100nF ceramic capacitor (voltage rating above 10V) from BOOT pin to SW2 pin.", A2 VREF (out) "Internal bias regulator voltage. Connect a 1uF ceramic capacitor from this output to PGND.", A3 VREG (out) "Voltage regulator. 2.5V with 10mA current capability. Connect a 0.1uF ceramic capacitor to ground", A4 SDA (io) "I2C interface data. Connect a 10-kO pull-up resistor to 1.8V rail.", A5 BOOT1 (power) "Boot-strapped capacitor for the high-side MOSFET gate driver. Connect a 100nF ceramic capacitor (voltage rating above 10V) from BOOT1 pin to SW1 pin.", B1 VIN (power) "Charger input voltage. Bypass it with a 1uF ceramic capacitor from VIN to GND.", B2 VIN (power) "Charger input voltage. Bypass it with a 1uF ceramic capacitor from VIN to GND.", B3 SCL (in) "I2C interface clock. Connect a 10-kO pull-up resistor to 1.8V rail.", B4 VBUS (power) "Charger input voltage. Bypass it with a 4.7uF ceramic capacitor from VBUS to GND. This pin also provides the output of the boost converter when in Boost Mode.", B5 VBUS (power) "Charger input voltage. Bypass it with a 4.7uF ceramic capacitor from VBUS to GND. This pin also provides the output of the boost converter when in Boost Mode.", C1 PMID2 (out) "Connection point between reverse blocking FET and high-side switching FET. Bypass it with a minimum of 3.3uF capacitor from PMID2 to GND.", C2 PMID2 (out) "Connection point between reverse blocking FET and high-side switching FET. Bypass it with a minimum of 3.3uF capacitor from PMID2 to GND.", C3 SLRST (in) "Safety limit register control. When SLRST = 0, all the safety limit values are reset to default values, regardless of the write actions to the safety limits registers. When SLRST = 1, the host can program the safety limits (See Datasheet)", C4 PMID1 (out) "Connection point between reverse blocking FET and high-side switching FET. Bypass it with a minimum of 3.3uF capacitor from PMID1 to GND.", C5 PMID1 (out) "Connection point between reverse blocking FET and high-side switching FET. Bypass it with a minimum of 3.3uF capacitor from PMID1 to GND.", D1 SW2 (power) "Internal switch to output inductor connection.", D2 SW2 (power) "Internal switch to output inductor connection.", D3 DIS (in) "Charge disable control pin. DIS=0, charge is enabled. DIS=1, charge is disabled. VIN and VBUS pins are high impedance to PGND. In 15min mode, DIS=1 will reset the 15min timer; while in 32s mode, DIS=1 will NOT reset the (See Datasheet)", D4 SW1 (power) "Internal switch to output inductor connection.", D5 SW1 (power) "Internal switch to output inductor connection.", E1 GND (power) "Ground pins.", E2 GND (power) "Ground pins.", E3 GND (power) "Ground pins.", E4 GND (power) "Ground pins.", E5 GND (power) "Ground pins.", F1 LED (out) "High side LED driver. Current, on and off times can be programmed through I2C to select different modes.", F2 OTG (in) "Boost mode enable control and VBUS input current limiting selection pin. When OTG is in active status per the control register, VBUS converter will be forced to operate in boost mode. It has higher priority over I2C control (See Datasheet)", F3 CSIN (in) "Charge current-sense input. Battery current is sensed via the voltage drop across an external sense resistor. A 0.1uF ceramic capacitor to GND is required.", F4 VBAT (in) "Battery voltage and current sense input. Bypass it with a ceramic capacitor (minimum 0.1uF) to GND if there are long inductive leads to battery.", F5 STAT (hiz) "Charge status pin. Pull low when charge in progress. Open drain for other conditions. During faults, a 128uS pulse is sent out. STAT pin can be disabled by the EN_STAT bit in control register. STAT can be used to drive a LED (See Datasheet)"

## BQ24140YFFT
designator U?
1.5 A Dual Input Switchmode Charger with USB-OTG Suppor, 4 V, -40 to 85 degC, 30-pin DSBGA (YFF), Green (RoHS & no Sb/Br); PartNumber: BQ24140YFFT; Manufacturer: Texas Instruments; Lead Acid: N; Li-Ion: Y; SubFamily: Battery Charge Management; Vin(Min)(V): 4; DatasheetVersion: SLUSAO5; PackageVersion: revAE, Nov-2011; PackageReference: YFF30; PackageDescription: 30-Ball Die-Size Ball Grid Array, 2.6 x 2.3 mm Body, 0.4 mm Pitch, Pb-Free; Supplier 1: Digi-Key; Supplier Part Number 1: 296-32028-2-ND; Supplier 2: Digi-Key; Supplier Part Number 2: 296-32028-1-ND; Supplier 3: Digi-Key; Supplier Part Number 3: 296-32028-6-ND; Supplier 4: Newark; Supplier Part Number 4: 68T8954; Supplier 5: Mouser; Supplier Part Number 5: 595-BQ24140YFFT; Eco-Plan: Green (RoHS & no Sb/Br); Li-Polymer: Y; NiCd: N; NiMH: N; Over Voltage Protection: N; Mounting Technology: Surface Mount; ComponentLink1Description: Datasheet; ComponentLink1URL: http://www.ti.com/general/docs/lit/getliterature.tsp?genericPartNumber=BQ24140&fileType=pdf
footprint YFF30 (BGA, 30-Leads, Body 2.6x2.3mm, Pitch 0.4mm, Solder Mask Defined Pads)
pins: A1 BOOT (power) "Boot-strapped capacitor for the high-side MOSFET gate driver. Connect a 100nF ceramic capacitor (voltage rating above 10V) from BOOT pin to SW2 pin.", A2 VREF (out) "Internal bias regulator voltage. Connect a 1uF ceramic capacitor from this output to PGND.", A3 VREG (out) "Voltage regulator. 2.5V with 10mA current capability. Connect a 0.1uF ceramic capacitor to ground", A4 SDA (io) "I2C interface data. Connect a 10-kO pull-up resistor to 1.8V rail.", A5 BOOT1 (power) "Boot-strapped capacitor for the high-side MOSFET gate driver. Connect a 100nF ceramic capacitor (voltage rating above 10V) from BOOT1 pin to SW1 pin.", B1 VIN (power) "Charger input voltage. Bypass it with a 1uF ceramic capacitor from VIN to GND.", B2 VIN (power) "Charger input voltage. Bypass it with a 1uF ceramic capacitor from VIN to GND.", B3 SCL (in) "I2C interface clock. Connect a 10-kO pull-up resistor to 1.8V rail.", B4 VBUS (power) "Charger input voltage. Bypass it with a 4.7uF ceramic capacitor from VBUS to GND. This pin also provides the output of the boost converter when in Boost Mode.", B5 VBUS (power) "Charger input voltage. Bypass it with a 4.7uF ceramic capacitor from VBUS to GND. This pin also provides the output of the boost converter when in Boost Mode.", C1 PMID2 (out) "Connection point between reverse blocking FET and high-side switching FET. Bypass it with a minimum of 3.3uF capacitor from PMID2 to GND.", C2 PMID2 (out) "Connection point between reverse blocking FET and high-side switching FET. Bypass it with a minimum of 3.3uF capacitor from PMID2 to GND.", C3 SLRST (in) "Safety limit register control. When SLRST = 0, all the safety limit values are reset to default values, regardless of the write actions to the safety limits registers. When SLRST = 1, the host can program the safety limits (See Datasheet)", C4 PMID1 (out) "Connection point between reverse blocking FET and high-side switching FET. Bypass it with a minimum of 3.3uF capacitor from PMID1 to GND.", C5 PMID1 (out) "Connection point between reverse blocking FET and high-side switching FET. Bypass it with a minimum of 3.3uF capacitor from PMID1 to GND.", D1 SW2 (power) "Internal switch to output inductor connection.", D2 SW2 (power) "Internal switch to output inductor connection.", D3 DIS (in) "Charge disable control pin. DIS=0, charge is enabled. DIS=1, charge is disabled. VIN and VBUS pins are high impedance to PGND. In 15min mode, DIS=1 will reset the 15min timer; while in 32s mode, DIS=1 will NOT reset the (See Datasheet)", D4 SW1 (power) "Internal switch to output inductor connection.", D5 SW1 (power) "Internal switch to output inductor connection.", E1 GND (power) "Ground pins.", E2 GND (power) "Ground pins.", E3 GND (power) "Ground pins.", E4 GND (power) "Ground pins.", E5 GND (power) "Ground pins.", F1 LED (out) "High side LED driver. Current, on and off times can be programmed through I2C to select different modes.", F2 OTG (in) "Boost mode enable control and VBUS input current limiting selection pin. When OTG is in active status per the control register, VBUS converter will be forced to operate in boost mode. It has higher priority over I2C control (See Datasheet)", F3 CSIN (in) "Charge current-sense input. Battery current is sensed via the voltage drop across an external sense resistor. A 0.1uF ceramic capacitor to GND is required.", F4 VBAT (in) "Battery voltage and current sense input. Bypass it with a ceramic capacitor (minimum 0.1uF) to GND if there are long inductive leads to battery.", F5 STAT (hiz) "Charge status pin. Pull low when charge in progress. Open drain for other conditions. During faults, a 128uS pulse is sent out. STAT pin can be disabled by the EN_STAT bit in control register. STAT can be used to drive a LED (See Datasheet)"

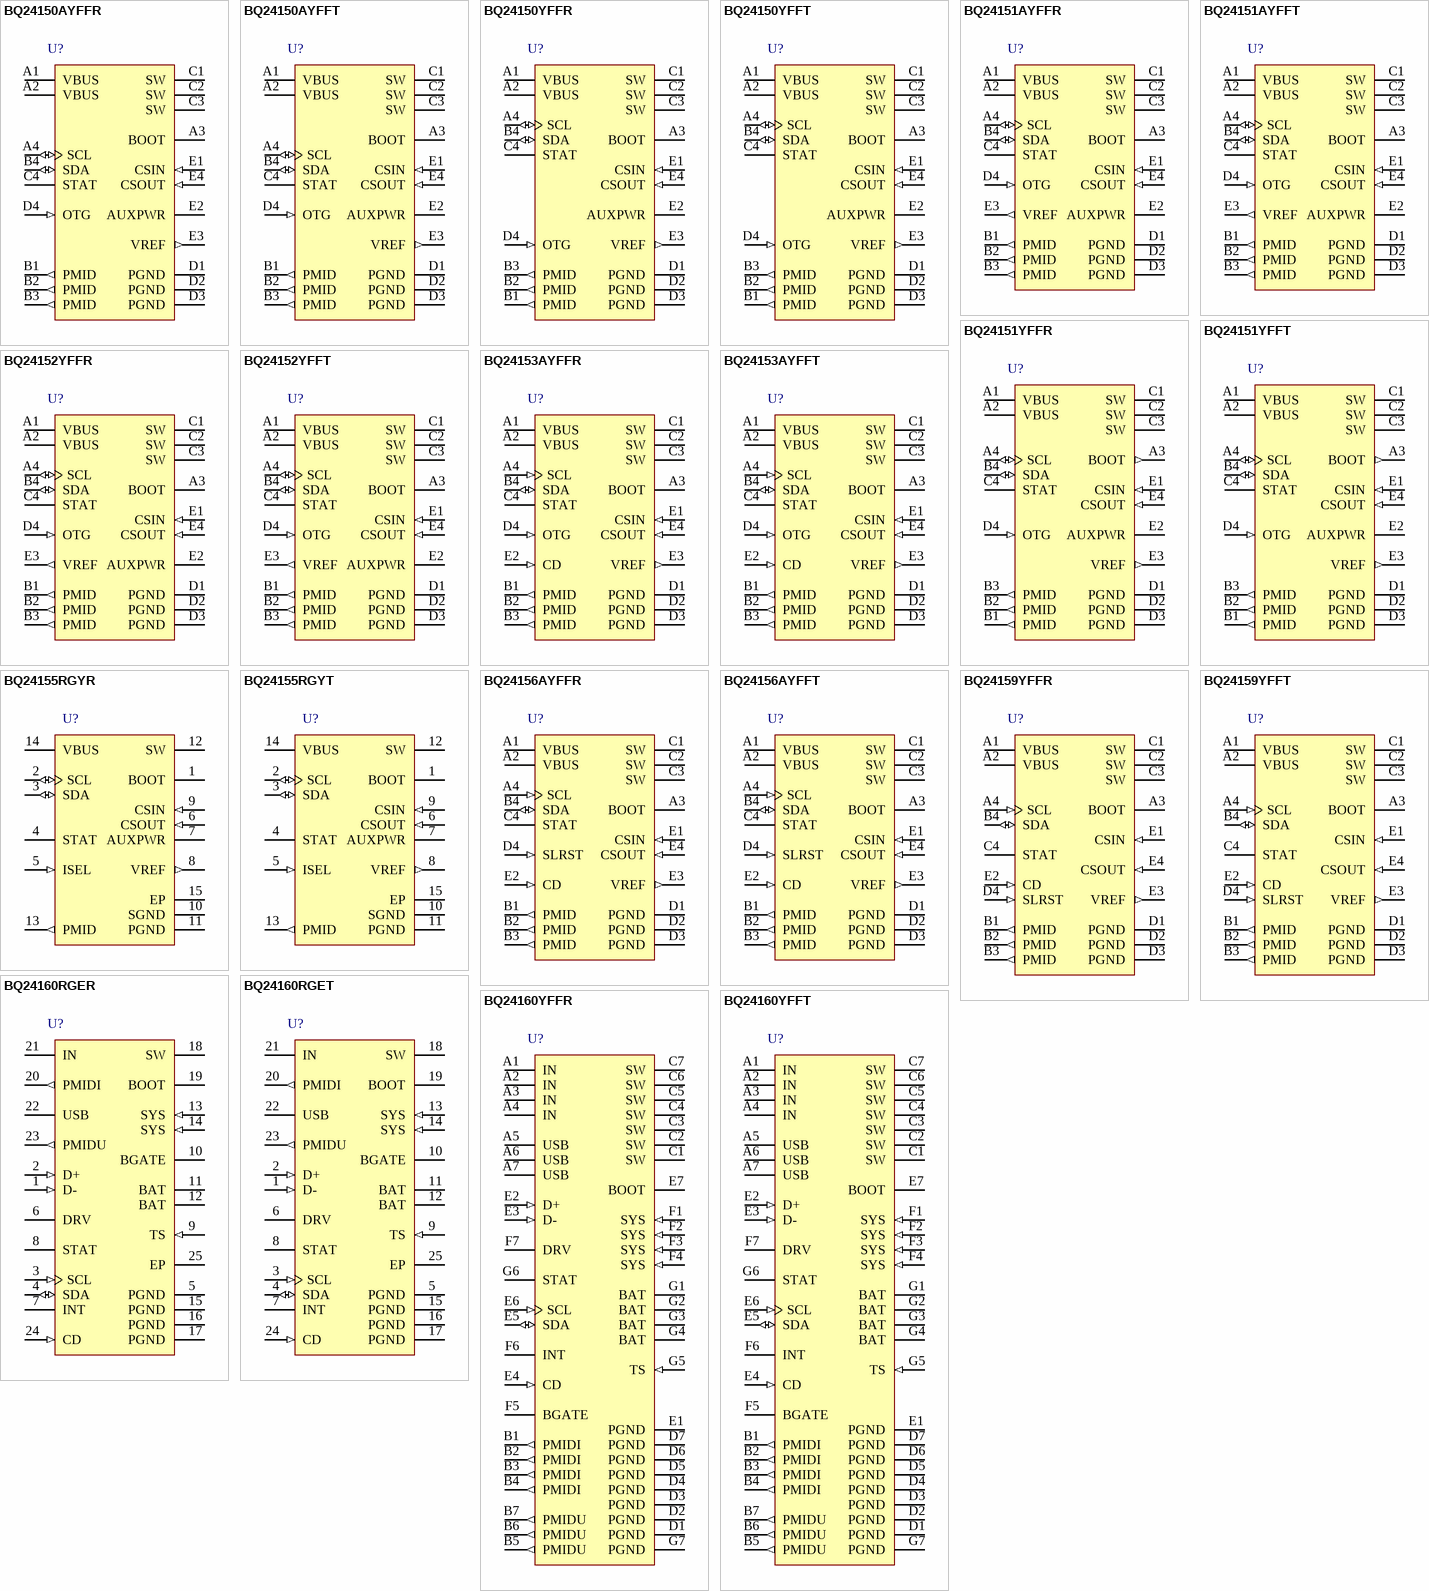
[diagram p19: symbols BQ24150AYFFR to BQ24160YFFT]